# EAGLE library part RFM69_BOB (library SparkFun-Boards)
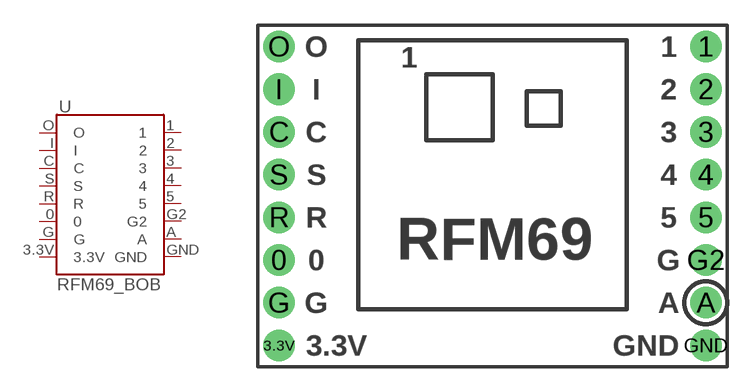
[diagram p27: symbol with the pads of RFM69_BOB; footprint RFM69_BOB]

Designator prefix -

## RFM69_BOB  [RFM69_BOB]
0  0
1  1
2  2
3  3
3.3V  3.3V
4  4
5  5
A  A
C  C
G  G
G2  G2
GND  GND
I  I
O  O
R  R
S  S

## Footprint RFM69_BOB (pad centres in mm)
drill 1.118 pad 1.88: 0 -12.7,-3.81; 1 12.7,8.89; 2 12.7,6.35; 3 12.7,3.81; 3.3V -12.7,-8.89; 4 12.7,1.27; 5 12.7,-1.27; A 12.7,-6.35; C -12.7,3.81; G -12.7,-6.35; G2 12.7,-3.81; GND 12.7,-8.89; I -12.7,6.35; O -12.7,8.89; R -12.7,-1.27; S -12.7,1.27